# EAGLE library part XC2C64-QFG48 (library Xilinx)
XC2C64A, Coolrunner-II CPLD, QFG48 Package
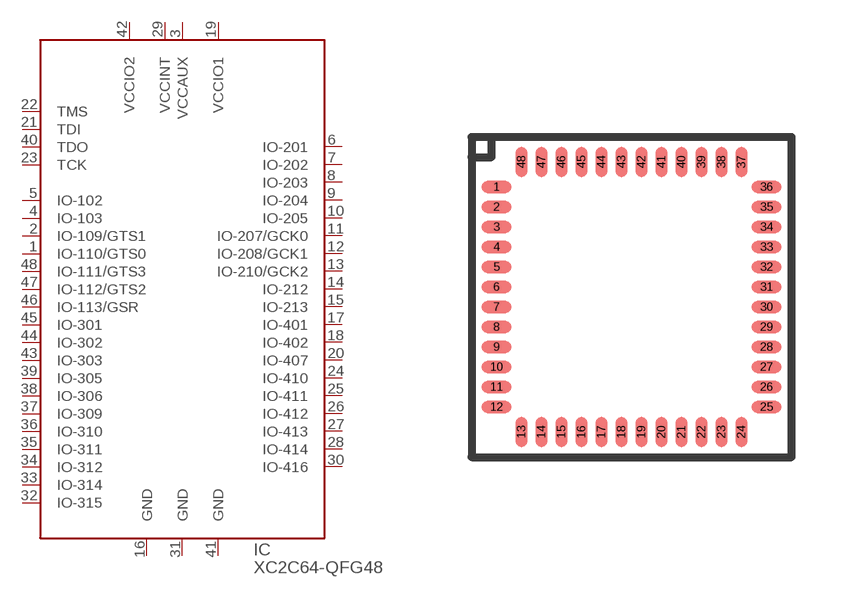
[diagram p40: symbol with the pads of QFG48; footprint QFG48]

Designator prefix IC

## XC2C64-QFG48  [QFG48]
1  IO-110/GTS0
2  IO-109/GTS1
3  VCCAUX
4  IO-103
5  IO-102
6  IO-201
7  IO-202
8  IO-203
9  IO-204
10  IO-205
11  IO-207/GCK0
12  IO-208/GCK1
13  IO-210/GCK2
14  IO-212
15  IO-213
16  GND
17  IO-401
18  IO-402
19  VCCIO1
20  IO-407
21  TDI
22  TMS
23  TCK
24  IO-410
25  IO-411
26  IO-412
27  IO-413
28  IO-414
29  VCCINT
30  IO-416
31  GND
32  IO-315
33  IO-314
34  IO-312
35  IO-311
36  IO-310
37  IO-309
38  IO-306
39  IO-305
40  TDO
41  GND
42  VCCIO2
43  IO-303
44  IO-302
45  IO-301
46  IO-113/GSR
47  IO-112/GTS2
48  IO-111/GTS3

## Footprint QFG48 (pad centres in mm)
Xilinx QFG48, Quad Flat No Lead package
smd 0.75 x 0.3: 1 -3.375,2.75; 2 -3.375,2.25; 3 -3.375,1.75; 4 -3.375,1.25; 5 -3.375,0.75; 6 -3.375,0.25; 7 -3.375,-0.25; 8 -3.375,-0.75; 9 -3.375,-1.25; 10 -3.375,-1.75; 11 -3.375,-2.25; 12 -3.375,-2.75; 25 3.375,-2.75; 26 3.375,-2.25; 27 3.375,-1.75; 28 3.375,-1.25; 29 3.375,-0.75; 30 3.375,-0.25; 31 3.375,0.25; 32 3.375,0.75; 33 3.375,1.25; 34 3.375,1.75; 35 3.375,2.25; 36 3.375,2.75
smd 0.3 x 0.75: 13 -2.75,-3.375; 14 -2.25,-3.375; 15 -1.75,-3.375; 16 -1.25,-3.375; 17 -0.75,-3.375; 18 -0.25,-3.375; 19 0.25,-3.375; 20 0.75,-3.375; 21 1.25,-3.375; 22 1.75,-3.375; 23 2.25,-3.375; 24 2.75,-3.375; 37 2.75,3.375; 38 2.25,3.375; 39 1.75,3.375; 40 1.25,3.375; 41 0.75,3.375; 42 0.25,3.375; 43 -0.25,3.375; 44 -0.75,3.375; 45 -1.25,3.375; 46 -1.75,3.375; 47 -2.25,3.375; 48 -2.75,3.375